# Altium footprint library LARS_409_MC.PCBLIB: 33 footprints (part 2 of 3)
Each footprint in its own frame and in the unit in brackets; x right, y up, seen from the top. Pads: shape width x height; smd on the part's side, far side on the other; paste and mask are expansions set on the pad; w line width, h text height; cw(c..) or ccw(c..) is an arc to the next point about the centre after c.
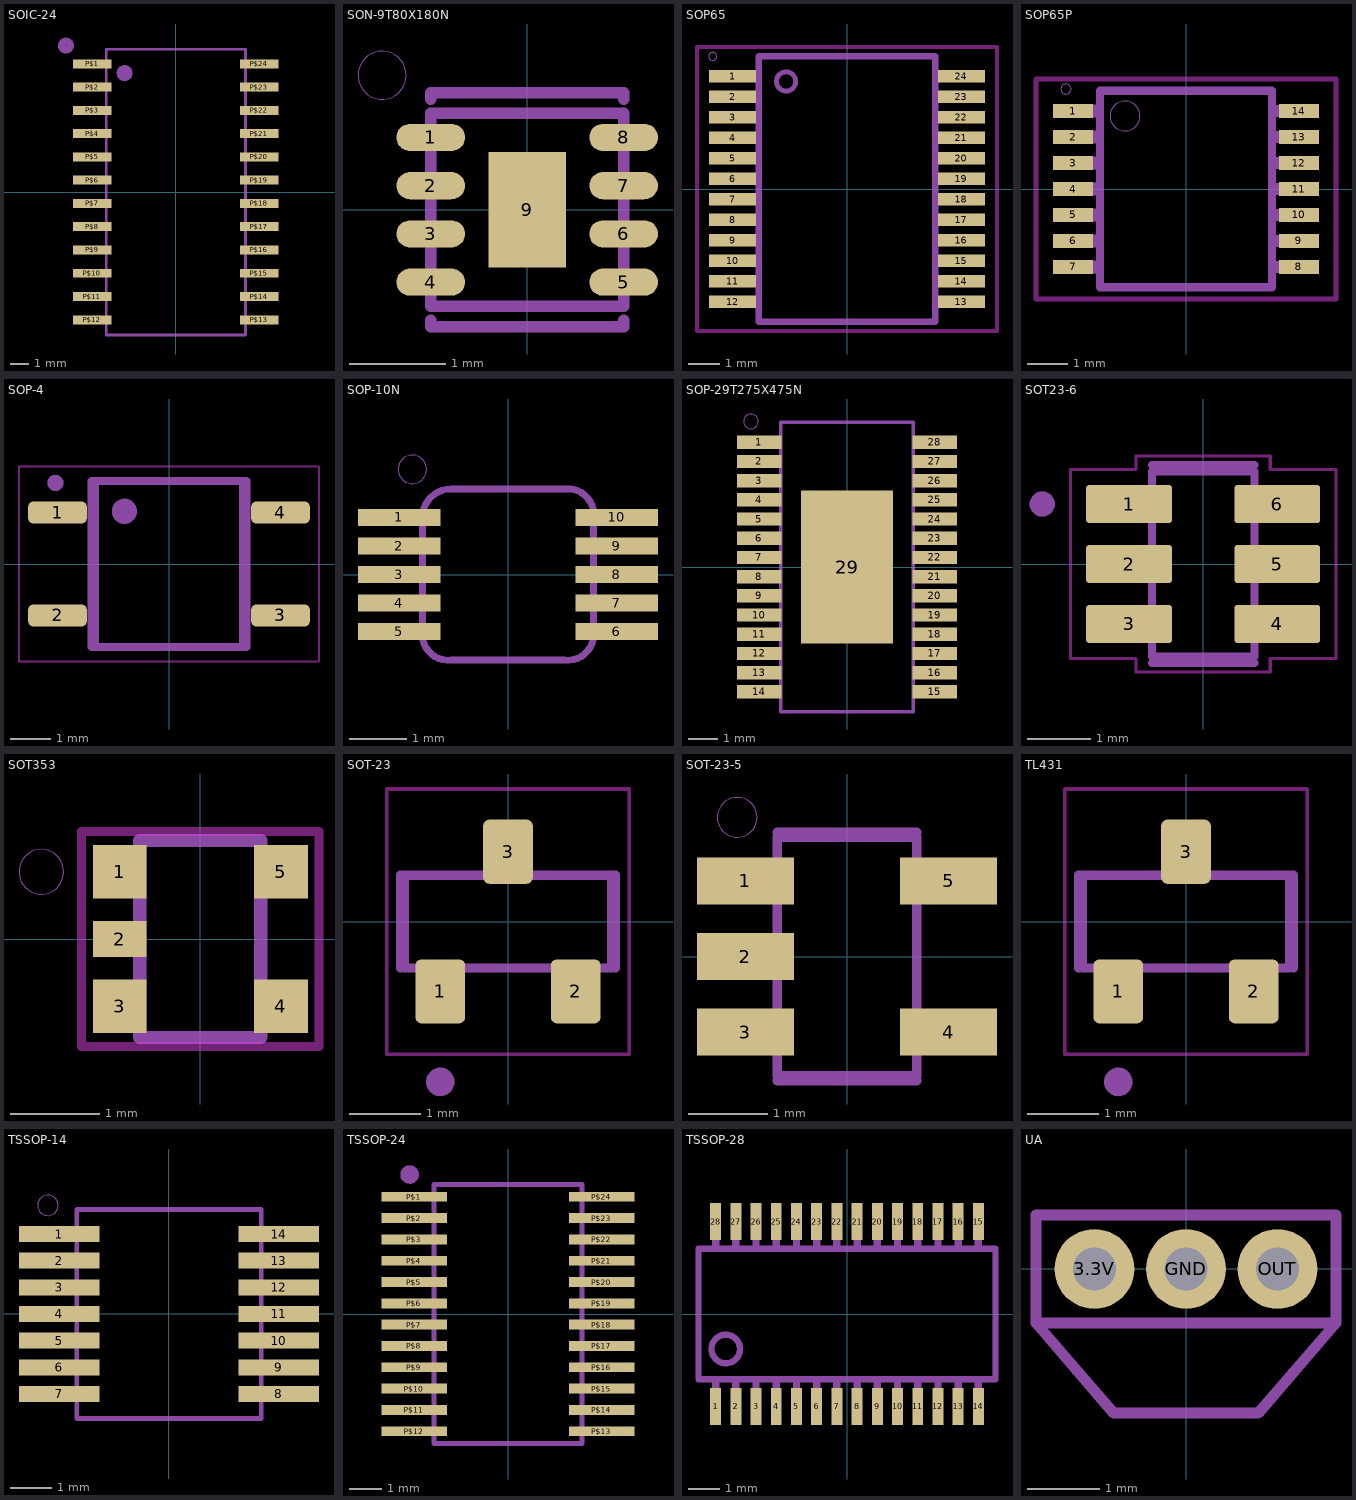
[diagram p1: the footprints below, top view; thin cyan lines are the x and y axes]

## SOIC-24 [mm]
pads (24):
  rect 2.1x0.49 smd: P$1(-4.56,7) P$2(-4.56,5.73) P$3(-4.56,4.46) P$4(-4.56,3.19) P$5(-4.56,1.92) P$6(-4.56,0.65) P$7(-4.56,-0.62) P$8(-4.56,-1.89) P$9(-4.56,-3.16) P$10(-4.56,-4.43) P$11(-4.56,-5.7) P$12(-4.56,-6.97) P$13(4.56,-6.97) P$14(4.56,-5.7) P$15(4.56,-4.43) P$16(4.56,-3.16) P$17(4.56,-1.89) P$18(4.56,-0.62) P$19(4.56,0.65) P$20(4.56,1.92) P$21(4.56,3.19) P$22(4.56,4.46) P$23(4.56,5.73) P$24(4.56,7)
tPlace:
  circle w0.152: c-6,8 r0.361
  circle w0.152: c-6,8 r0.1
  circle w0.152: c-6,8 r0.283
  circle w0.152: c-6,8 r0.2
  circle w0.152: c-2.8,6.5 r0.361
  circle w0.152: c-2.8,6.5 r0.1
  circle w0.152: c-2.8,6.5 r0.283
  circle w0.152: c-2.8,6.5 r0.2
  lines w0.152: -3.8,-7.8 -3.8,7.8 3.8,7.8 3.8,-7.8 -3.8,-7.8

## SON-9T80X180N [mm]
pads (9):
  rrect100% 0.712x0.282 smd: 1(-1,0.75) 2(-1,0.25) 3(-1,-0.25) 4(-1,-0.75) 5(1,-0.75) 6(1,-0.25) 7(1,0.25) 8(1,0.75)
  rect 0.8x1.2 smd: 9(0,0)
tDocu:
  lines w0.12: -1,-1 -1,1 1,1 1,-1 -1,-1
tPlace:
  circle w0: c-1.504,1.395 r0.25
  lines w0.12: -1,-1.145 -1,-1.214 1,-1.214 1,-1.145 ; -1,1.145 -1,1.214 1,1.214 1,1.145

## SOP65 [mm]
pads (24):
  rect 1.5x0.4 smd: 1(-3.625,3.575) 2(-3.625,2.925) 3(-3.625,2.275) 4(-3.625,1.625) 5(-3.625,0.975) 6(-3.625,0.325) 7(-3.625,-0.325) 8(-3.625,-0.975) 9(-3.625,-1.625) 10(-3.625,-2.275) 11(-3.625,-2.925) 12(-3.625,-3.575) 13(3.625,-3.575) 14(3.625,-2.925) 15(3.625,-2.275) 16(3.625,-1.625) 17(3.625,-0.975) 18(3.625,-0.325) 19(3.625,0.325) 20(3.625,0.975) 21(3.625,1.625) 22(3.625,2.275) 23(3.625,2.925) 24(3.625,3.575)
Top keep-out:
  lines w0.127: -4.75,-4.5 -4.75,4.5 4.75,4.5 4.75,-4.5 -4.75,-4.5
tDocu:
  circle w0.152: c-1.928,3.406 r0.305
  region: 2.804,-2.428 2.804,-2.125 3.8,-2.125 3.8,-2.428
  region: 2.805,1.478 2.805,1.775 3.8,1.775 3.8,1.478
  region: 3.8,-0.175 3.8,-0.476 2.806,-0.476 2.806,-0.175
  region: 3.8,-0.825 3.8,-1.128 2.808,-1.128 2.808,-0.825
  region: 3.8,-1.475 3.8,-1.777 2.803,-1.777 2.803,-1.475
  region: 3.8,-2.775 3.8,-3.084 2.808,-3.084 2.808,-2.775
  region: 3.8,-3.425 3.8,-3.731 2.804,-3.731 2.804,-3.425
  region: 3.8,3.725 3.8,3.431 2.805,3.431 2.805,3.725
  region: 3.8,3.075 3.8,2.781 2.806,2.781 2.806,3.075
  region: 3.8,2.425 3.8,2.126 2.802,2.126 2.802,2.425
  region: 3.8,1.125 3.8,0.827 2.807,0.827 2.807,1.125
  region: 3.8,0.475 3.8,0.176 2.807,0.176 2.807,0.475
  region: -3.808,-3.733 -3.808,-3.425 -2.8,-3.425 -2.8,-3.733
  region: -3.808,-3.082 -3.808,-2.775 -2.8,-2.775 -2.8,-3.082
  region: -3.81,-2.432 -3.81,-2.125 -2.8,-2.125 -2.8,-2.432
  region: -3.811,-1.78 -3.811,-1.475 -2.8,-1.475 -2.8,-1.78
  region: -3.807,-1.127 -3.807,-0.825 -2.8,-0.825 -2.8,-1.127
  region: -3.812,-0.477 -3.812,-0.175 -2.8,-0.175 -2.8,-0.477
  region: -3.807,0.175 -3.807,0.475 -2.8,0.475 -2.8,0.175
  region: -3.808,0.827 -3.808,1.125 -2.8,1.125 -2.8,0.827
  region: -3.807,1.478 -3.807,1.775 -2.8,1.775 -2.8,1.478
  region: -3.812,2.132 -3.812,2.425 -2.8,2.425 -2.8,2.132
  region: -3.807,2.78 -3.807,3.075 -2.8,3.075 -2.8,2.78
  region: -3.811,3.435 -3.811,3.725 -2.8,3.725 -2.8,3.435
  lines w0.203: -2.8,-4.2 -2.8,4.2 ; 2.8,-4.2 2.8,4.2
tPlace:
  circle w0: c-4.25,4.2 r0.127
  lines w0.203: -2.8,-4.2 2.8,-4.2 ; -2.8,4.2 2.8,4.2

## SOP65P [mm]
pads (14):
  rect 1x0.35 smd: 1(-2.825,1.95) 2(-2.825,1.3) 3(-2.825,0.65) 4(-2.825,0) 5(-2.825,-0.65) 6(-2.825,-1.3) 7(-2.825,-1.95) 8(2.825,-1.95) 9(2.825,-1.3) 10(2.825,-0.65) 11(2.825,0) 12(2.825,0.65) 13(2.825,1.3) 14(2.825,1.95)
Top keep-out:
  lines w0.127: -3.75,-2.75 -3.75,2.75 3.75,2.75 3.75,-2.75 -3.75,-2.75
tDocu:
  circle w0: c-1.525,1.825 r0.375
  region: 3.2,1.801 2.226,1.801 2.226,2.1 3.2,2.1
  region: 3.2,1.15 2.225,1.15 2.225,1.45 3.2,1.45
  region: 3.201,0.501 2.226,0.501 2.226,0.799 3.201,0.799
  region: 3.203,-0.148 2.227,-0.148 2.227,0.147 3.203,0.147
  region: 3.201,-0.8 2.226,-0.8 2.226,-0.501 3.201,-0.501
  region: 3.201,-1.45 2.225,-1.45 2.225,-1.151 3.201,-1.151
  region: 3.205,-2.1 2.225,-2.1 2.225,-1.805 3.205,-1.805
  region: -3.201,-1.8 -2.225,-1.8 -2.225,-2.1 -3.201,-2.1
  region: -3.205,-1.149 -2.226,-1.149 -2.226,-1.455 -3.205,-1.455
  region: -3.202,-0.499 -2.226,-0.499 -2.226,-0.802 -3.202,-0.802
  region: -3.201,0.15 -2.226,0.15 -2.226,-0.151 -3.201,-0.151
  region: -3.2,0.8 -2.225,0.8 -2.225,0.5 -3.2,0.5
  region: -3.201,1.452 -2.227,1.452 -2.227,1.149 -3.201,1.149
  region: -3.201,2.102 -2.227,2.102 -2.227,1.799 -3.201,1.799
tPlace:
  circle w0: c-3,2.5 r0.127
  lines w0.203: -2.15,-2.455 2.15,-2.455 2.15,2.455 -2.15,2.455 -2.15,-2.455

## SOP-4 [mm]
pads (4):
  rrect50% 1.45x0.55 smd: 1(-2.75,1.27) 2(-2.75,-1.27) 3(2.75,-1.27) 4(2.75,1.27)
Top keep-out:
  lines w0.05: -3.7,-2.4 -3.7,2.4 3.7,2.4 3.7,-2.4 -3.7,-2.4
tDocu:
  circle w0.2: c-2.8,2 r0.1
  circle w0.3: c-1.1,1.3 r0.16
  lines w0.2: -1.905,-2.05 -1.905,2.05 1.905,2.05 1.905,-2.05 -1.905,-2.05
tPlace:
  circle w0.2: c-2.8,2 r0.1
  circle w0.3: c-1.1,1.3 r0.16
  lines w0.2: -1.825,-2.05 -1.825,2.05 1.825,2.05 1.825,-2.05 -1.825,-2.05

## SOP-10N [mm]
pads (10):
  rect 1.45x0.3 smd: 1(-1.906,1) 2(-1.906,0.5) 3(-1.906,0) 4(-1.906,-0.5) 5(-1.906,-1) 6(1.906,-1) 7(1.906,-0.5) 8(1.906,0) 9(1.906,0.5) 10(1.906,1)
tDocu:
  lines w0.12: -1.5,-1 -1.5,1 ; 1.5,-1 1.5,1
tPlace:
  circle w0: c-1.678,1.844 r0.25
  lines w0.12: -1.5,-1 ccw(c-1.05,-1.05) -1,-1.5 1,-1.5 ccw(c1.05,-1.05) 1.5,-1 ; -1.5,1 cw(c-1,1) -1,1.5 1,1.5 ; 1.1,1.5 1,1.5 ; 1.5,1 ccw(c1.05,1.05) 1,1.5

## SOP-29T275X475N [mm]
pads (29):
  rect 1.5x0.45 smd: 1(-2.973,4.225) 2(-2.973,3.575) 3(-2.973,2.925) 4(-2.973,2.275) 5(-2.973,1.625) 6(-2.973,0.975) 7(-2.973,0.325) 8(-2.973,-0.325) 9(-2.973,-0.975) 10(-2.973,-1.625) 11(-2.973,-2.275) 12(-2.973,-2.925) 13(-2.973,-3.575) 14(-2.973,-4.225) 15(2.973,-4.225) 16(2.973,-3.575) 17(2.973,-2.925) 18(2.973,-2.275) 19(2.973,-1.625) 20(2.973,-0.975) 21(2.973,-0.325) 22(2.973,0.325) 23(2.973,0.975) 24(2.973,1.625) 25(2.973,2.275) 26(2.973,2.925) 27(2.973,3.575) 28(2.973,4.225)
  rect 3.1x5.18 smd: 29(0,0)
tDocu:
  lines w0.12: -2.25,-4.9 -2.25,4.9 2.25,4.9 2.25,-4.9 -2.25,-4.9
tPlace:
  circle w0: c-3.254,4.932 r0.25
  lines w0.12: -2.25,-4.682 -2.25,-4.9 2.25,-4.9 2.25,-4.682 ; -2.25,4.682 -2.25,4.9 2.25,4.9 2.25,4.682

## SOT23-6 [mm]
pads (6):
  rrect15% 1.36x0.6 smd: 1(-1.175,0.95) 2(-1.175,0) 3(-1.175,-0.95) 4(1.175,-0.95) 5(1.175,0) 6(1.175,0.95)
Top keep-out:
  lines w0.05: -2.105,-1.5 -2.105,1.5 -1.062,1.5 -1.062,1.712 1.062,1.712 1.062,1.5 2.105,1.5 2.105,-1.5 1.062,-1.5 1.062,-1.712 -1.062,-1.712 -1.062,-1.5 -2.105,-1.5
tDocu:
  circle w0.2: c-2.55,0.95 r0.1
  lines w0.127: -0.813,-1.463 -0.813,1.463 0.813,1.463 0.813,-1.463 -0.813,-1.463
tPlace:
  circle w0.2: c-2.55,0.95 r0.1
  lines w0.127: -0.813,-1.57 0.813,-1.57 ; -0.813,1.57 0.813,1.57

## SOT353 [mm]
pads (5):
  rect 0.6x0.6 smd: 1(-0.9,0.75) 3(-0.9,-0.75) 4(0.9,-0.75) 5(0.9,0.75)
  rect 0.6x0.4 smd: 2(-0.9,0)
Top keep-out:
  lines w0.1: -1.325,-1.2 1.325,-1.2 1.325,1.2 -1.325,1.2 -1.325,-1.2
tDocu:
  lines w0.15: -0.675,-1.1 0.675,-1.1 0.675,1.1 -0.675,1.1 -0.675,-1.1
tPlace:
  circle w0: c-1.775,0.75 r0.25
  lines w0.15: -0.225,-1.1 0.225,-1.1 ; -0.225,1.1 0.225,1.1 ; 0.675,-0.075 0.675,0.075

## SOT-23 [mm]
pads (3):
  rrect25% 0.7x0.9 smd: 1(-0.95,-0.98) 2(0.95,-0.98) 3(0,0.98)
Top keep-out:
  lines w0.05: -1.7,-1.86 -1.7,1.86 1.7,1.86 1.7,-1.86 -1.7,-1.86
tDocu:
  circle w0.2: c-0.95,-2.25 r0.1
  lines w0.127: -1.45,-0.65 -1.45,0.65 1.45,0.65 1.45,-0.65 -1.45,-0.65
tPlace:
  circle w0.2: c-0.95,-2.25 r0.1
  lines w0.127: -1.509,-0.65 -1.509,0.65 -0.61,0.65 ; 0.61,0.65 1.509,0.65 1.509,-0.65

## SOT-23-5 [mm]
pads (5):
  rect 1.217x0.589 smd: 1(-1.277,0.95) 2(-1.277,0) 3(-1.277,-0.95) 4(1.277,-0.95) 5(1.277,0.95)
tDocu:
  lines w0.12: -0.875,-1.5 -0.875,1.5 0.875,1.5 0.875,-1.5 -0.875,-1.5
tPlace:
  circle w0: c-1.38,1.749 r0.25
  lines w0.12: -0.875,-1.559 0.875,-1.559 ; -0.875,1.559 0.875,1.559

## TL431 [mm]
pads (3):
  rrect25% 0.7x0.9 smd: 1(-0.95,-0.98) 2(0.95,-0.98) 3(0,0.98)
Top keep-out:
  lines w0.05: -1.7,-1.86 -1.7,1.86 1.7,1.86 1.7,-1.86 -1.7,-1.86
tDocu:
  circle w0.2: c-0.95,-2.25 r0.1
  lines w0.127: -1.45,-0.65 -1.45,0.65 1.45,0.65 1.45,-0.65 -1.45,-0.65
tPlace:
  circle w0.2: c-0.95,-2.25 r0.1
  lines w0.127: -1.509,-0.65 -1.509,0.65 -0.61,0.65 ; 0.61,0.65 1.509,0.65 1.509,-0.65

## TSSOP-14 [mil]
pads (14):
  rect 77.5x15.43 smd: 1(-105.25,76.77) 2(-105.25,51.18) 3(-105.25,25.59) 4(-105.25,0) 5(-105.25,-25.59) 6(-105.25,-51.18) 7(-105.25,-76.77) 8(105.25,-76.77) 9(105.25,-51.18) 10(105.25,-25.59) 11(105.25,0) 12(105.25,25.59) 13(105.25,51.18) 14(105.25,76.77)
tDocu:
  lines w4.72: -88.58,-100.39 -88.58,100.39 88.58,100.39 88.58,-100.39 -88.58,-100.39
tPlace:
  circle w0: c-116.29,104.33 r9.84
  lines w4.72: -88.58,-94.48 -88.58,-100.39 88.58,-100.39 88.58,-94.48 ; -88.58,94.48 -88.58,100.39 88.58,100.39 88.58,94.48

## TSSOP-24 [mm]
pads (24):
  rect 2x0.3 smd: P$1(-2.86,3.575) P$2(-2.86,2.925) P$3(-2.86,2.275) P$4(-2.86,1.625) P$5(-2.86,0.975) P$6(-2.86,0.325) P$7(-2.86,-0.325) P$8(-2.86,-0.975) P$9(-2.86,-1.625) P$10(-2.86,-2.275) P$11(-2.86,-2.925) P$12(-2.86,-3.575) P$13(2.86,-3.575) P$14(2.86,-2.925) P$15(2.86,-2.275) P$16(2.86,-1.625) P$17(2.86,-0.975) P$18(2.86,-0.325) P$19(2.86,0.325) P$20(2.86,0.975) P$21(2.86,1.625) P$22(2.86,2.275) P$23(2.86,2.925) P$24(2.86,3.575)
tPlace:
  circle w0.152: c-3,4.254 r0.207
  circle w0.152: c-2.984,4.254 r0.089
  circle w0.152: c-3.1,4.2 r0.1
  region: -3.048,4.127 -3.048,4.191 -2.984,4.191 -2.984,4.127
  lines w0.152: -2.25,-3.95 2.25,-3.95 2.25,3.95 -2.25,3.95 -2.25,-3.95

## TSSOP-28 [mm]
pads (28):
  rect 0.35x1.2 smd: 1(-4.225,-2.975) 2(-3.575,-2.975) 3(-2.925,-2.975) 4(-2.275,-2.975) 5(-1.625,-2.975) 6(-0.975,-2.975) 7(-0.325,-2.975) 8(0.325,-2.975) 9(0.975,-2.975) 10(1.625,-2.975) 11(2.275,-2.975) 12(2.925,-2.975) 13(3.575,-2.975) 14(4.225,-2.975) 15(4.225,2.975) 16(3.575,2.975) 17(2.925,2.975) 18(2.275,2.975) 19(1.625,2.975) 20(0.975,2.975) 21(0.325,2.975) 22(-0.325,2.975) 23(-0.975,2.975) 24(-1.625,2.975) 25(-2.275,2.975) 26(-2.925,2.975) 27(-3.575,2.975) 28(-4.225,2.975)
tDocu:
  region: -4.335,2.17 -4.335,3.2 -4.115,3.2 -4.115,2.17
  region: -3.685,2.17 -3.685,3.2 -3.465,3.2 -3.465,2.17
  region: -3.035,2.17 -3.035,3.2 -2.815,3.2 -2.815,2.17
  region: -2.385,2.17 -2.385,3.2 -2.165,3.2 -2.165,2.17
  region: -1.735,2.17 -1.735,3.2 -1.515,3.2 -1.515,2.17
  region: -1.085,2.17 -1.085,3.2 -0.865,3.2 -0.865,2.17
  region: -0.435,2.17 -0.435,3.2 -0.215,3.2 -0.215,2.17
  region: 0.215,2.17 0.215,3.2 0.435,3.2 0.435,2.17
  region: 0.865,2.17 0.865,3.2 1.085,3.2 1.085,2.17
  region: 1.515,2.17 1.515,3.2 1.735,3.2 1.735,2.17
  region: 2.165,2.17 2.165,3.2 2.385,3.2 2.385,2.17
  region: 2.815,2.17 2.815,3.2 3.035,3.2 3.035,2.17
  region: 3.465,2.17 3.465,3.2 3.685,3.2 3.685,2.17
  region: 4.115,2.17 4.115,3.2 4.335,3.2 4.335,2.17
  region: 4.115,-3.2 4.115,-2.17 4.335,-2.17 4.335,-3.2
  region: 3.465,-3.2 3.465,-2.17 3.685,-2.17 3.685,-3.2
  region: 2.815,-3.2 2.815,-2.17 3.035,-2.17 3.035,-3.2
  region: 2.165,-3.2 2.165,-2.17 2.385,-2.17 2.385,-3.2
  region: 1.515,-3.2 1.515,-2.17 1.735,-2.17 1.735,-3.2
  region: 0.865,-3.2 0.865,-2.17 1.085,-2.17 1.085,-3.2
  region: 0.215,-3.2 0.215,-2.17 0.435,-2.17 0.435,-3.2
  region: -0.435,-3.2 -0.435,-2.17 -0.215,-2.17 -0.215,-3.2
  region: -1.085,-3.2 -1.085,-2.17 -0.865,-2.17 -0.865,-3.2
  region: -1.735,-3.2 -1.735,-2.17 -1.515,-2.17 -1.515,-3.2
  region: -2.385,-3.2 -2.385,-2.17 -2.165,-2.17 -2.165,-3.2
  region: -3.035,-3.2 -3.035,-2.17 -2.815,-2.17 -2.815,-3.2
  region: -3.685,-3.2 -3.685,-2.17 -3.465,-2.17 -3.465,-3.2
  region: -4.335,-3.2 -4.335,-2.17 -4.115,-2.17 -4.115,-3.2
tPlace:
  circle w0.203: c-3.9,-1.125 r0.459
  lines w0.203: -4.775,-2.1 -4.775,2.1 4.775,2.1 4.775,-2.1 -4.775,-2.1

## UA [mm]
pads (3):
  round 1.108 hole 0.6: 3.3V(-1.27,0) GND(0,0) OUT(1.27,0)
tPlace:
  lines w0.152: -2.08,-0.75 -1,-2 1,-2 2.08,-0.75 ; -2.08,-0.75 -2.08,0.75 2.08,0.75 2.08,-0.75 ; -2.08,-0.75 2.08,-0.75